# Altium footprint library Components - 22.06.21 - 14.24.PcbLib: 1 footprints
Each footprint in its own frame and in the unit in brackets; x right, y up, seen from the top. Pads: shape width x height; smd on the part's side, far side on the other; paste and mask are expansions set on the pad; w line width, h text height; cw(c..) or ccw(c..) is an arc to the next point about the centre after c.
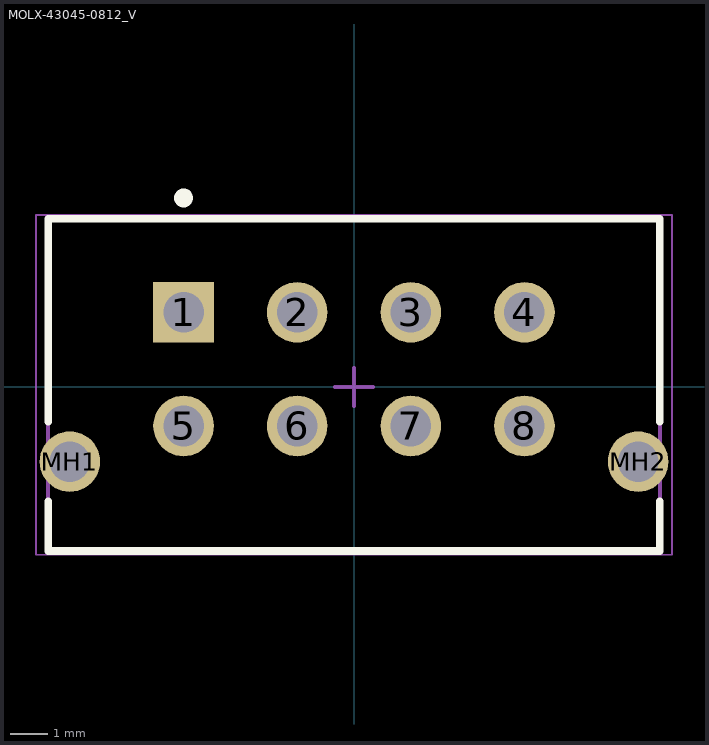
[diagram p0: the footprint, top view; thin cyan lines are the x and y axes]

## MOLX-43045-0812_V [mm] "PCB Header, 8-Leads, Vertical, Pitch 3 mm, Mated Height 17.27 mm, Through Hole"
height 9.91
pads (10):
  rect 1.6x1.6 hole 1.07: 1(-4.5,1.97)
  round 1.6 hole 1.07: 2(-1.5,1.97) 3(1.5,1.97) 4(4.5,1.97) 5(-4.5,-1.03) 6(-1.5,-1.03) 7(1.5,-1.03) 8(4.5,-1.03) MH1(-7.5,-1.97) MH2(7.5,-1.97)
Top Overlay:
  circle w0.25: c-4.5,4.99 r0.125
  lines w0.2: -8.075,-3.024 -8.075,-4.33 8.075,-4.33 8.075,-3.024 ; -8.075,-0.917 -8.075,4.44 8.075,4.44 8.075,-0.917
Mechanical 13:
  lines w0.1: -8.075,-4.33 8.075,-4.33 8.075,4.44 -8.075,4.44 -8.075,-4.33
Mechanical 15:
  lines w0.05: -8.4,-4.43 -8.4,4.54 8.4,4.54 8.4,-4.43 -8.4,-4.43
  lines w0.1: -0.5,0 0.5,0 ; 0,-0.5 0,0.5
3D body "430450812.stp": height 9.91, standoff -3.18, extent -8.075,-4.33 8.075,4.44